# EAGLE library part TPS60310 (library zkseagle)
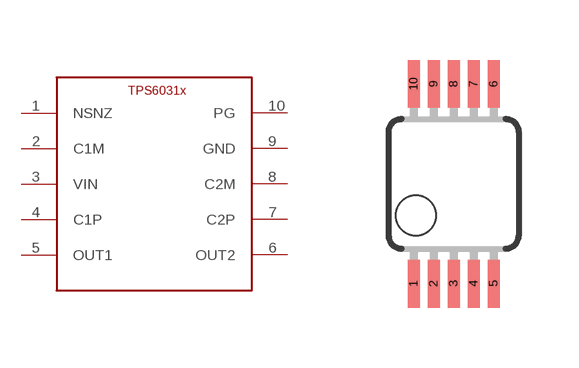
[diagram p9: symbol with the pads of MSOP10; footprint MSOP10]

Designator prefix -

## TPS60310  [MSOP10]
1  NSNZ  in
2  C1M
3  VIN  pwr
4  C1P
5  OUT1  pwr
6  OUT2  pwr
7  C2P
8  C2M
9  GND
10  PG  out

## Footprint MSOP10 (pad centres in mm)
Mini Small Outline Package
smd 0.3 x 1.2: 1 0,0; 2 0.5,0; 3 1,0; 4 1.5,0; 5 2,0; 6 2,5; 7 1.5,5; 8 1,5; 9 0.5,5; 10 0,5